# Altium footprint library PcbLib1.PcbLib: 1 footprints
Each footprint in its own frame and in the unit in brackets; x right, y up, seen from the top. Pads: shape width x height; smd on the part's side, far side on the other; paste and mask are expansions set on the pad; w line width, h text height; cw(c..) or ccw(c..) is an arc to the next point about the centre after c.
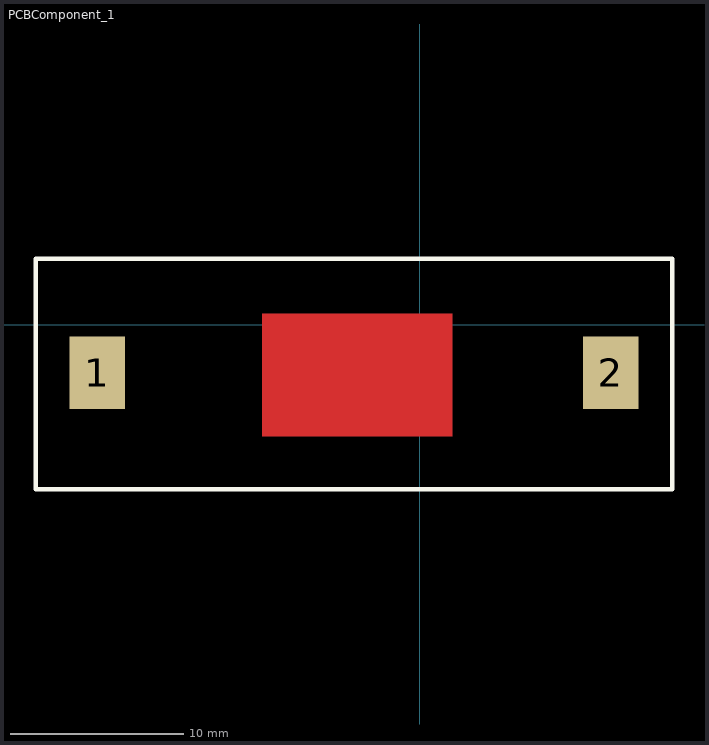
[diagram p0: the footprint, top view; thin cyan lines are the x and y axes]

## PCBComponent_1 [mm]
pads (2):
  rect 3.2x4.2 smd: 1(-18.669,-2.794) 2(11.049,-2.794)
Top Layer:
  rectangle: -9.144,-6.477 1.905,0.635
Top Overlay:
  lines w0.254: -22.225,-9.525 -22.225,3.81 14.605,3.81 14.605,-9.525 -22.225,-9.525